# EAGLE library part 623X1021021 (library Wurth_Elektronik_Electromechanic_Board_to_Board_Connectors_rev16a)
WR-PHD 1.27mm Dual SMT Socket Header H=4.50mm, 10 Pins=>Code : Con_BTB_SHD_1.27_2_623x1021021(Packaging:x = 0: Tube x = 3: Tape & Reel with Cap) <http://katalog.we-online.de/media/thumbs2/eican/thb_Con_BTB_SHD_1.27_2_6230xx21021_pf2.jpg> 6230xx21021 Details see: http://katalog.we-online.de/en/em/623_0xx_210_21 6233xx21021 Details see: http://katalog.we-online.de/en/em/PHD_1_27_SMT_DUAL_SOCKET_HEADER_REEL_6233XX21021 2014 (C) Würth Elektronik
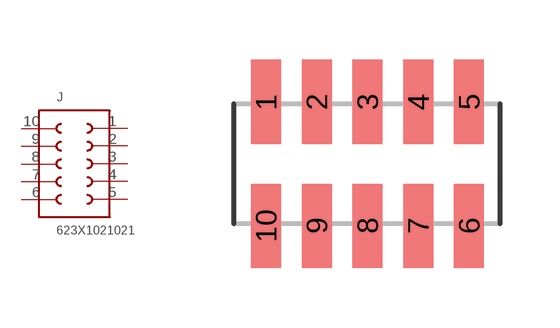
[diagram p308: symbol with the pads of 623X1021021; footprint 623X1021021]

Designator prefix J

## 623X1021021  [623X1021021]
1  1  pas
2  2  pas
3  3  pas
4  4  pas
5  5  pas
6  6  pas
7  7  pas
8  8  pas
9  9  pas
10  10  pas

## Footprint 623X1021021 (pad centres in mm)
WR-PHD 1.27mm Dual SMT Socket Header H=4.50mm, 10 Pins
smd 0.75 x 2.1: 1 -3.175,1.55; 2 -1.905,1.55; 3 -0.635,1.55; 4 0.635,1.55; 5 1.905,1.55; 6 1.905,-1.55; 7 0.635,-1.55; 8 -0.635,-1.55; 9 -1.905,-1.55; 10 -3.175,-1.55